# EAGLE library part AT30TS74 (library esbd-chips)
AT30TS74 ATMEL Digital Temperature Sensor 9- to 12-bit Selectable, ±1.0°C Accurate
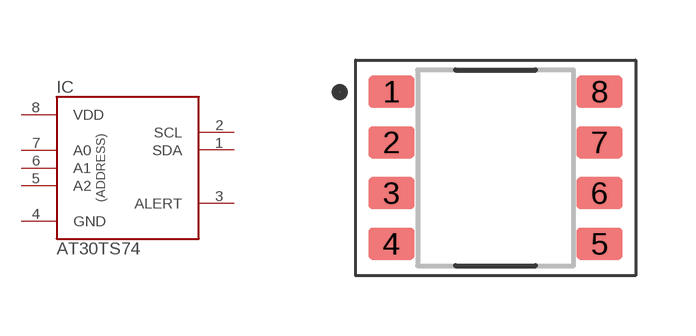
[diagram p4: symbol with the pads of SOIC8_3.90X4.90MM; footprint SOIC8_3.90X4.90MM]

Designator prefix IC

## AT30TS74  [SOIC8_3.90X4.90MM]
1  SDA  out
2  SCL  out
3  ALERT  out
4  GND  pwr
5  A2  in
6  A1  in
7  A0  in
8  VDD  pwr

## Footprint SOIC8_3.90X4.90MM (pad centres in mm)
https://www.analog.com/media/en/package-pcb-resources/package/pkg_pdf/ltc-legacy-soic/05081610_G_SO8.pdf
smd 1.15 x 0.8: 1 -2.6,1.905; 2 -2.6,0.635; 3 -2.6,-0.635; 4 -2.6,-1.905; 5 2.6,-1.905; 6 2.6,-0.635; 7 2.6,0.635; 8 2.6,1.905